# EAGLE library part WIRE-TO-BOARD_6-INLINE (library matts)
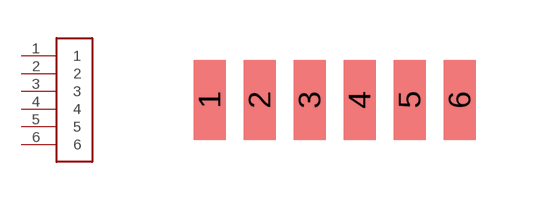
[diagram p2: symbol with the pads of WIRE-TO-BOARD_6-INLINE; footprint WIRE-TO-BOARD_6-INLINE]

Designator prefix -

## WIRE-TO-BOARD_6-INLINE  [WIRE-TO-BOARD_6-INLINE]
1  1
2  2
3  3
4  4
5  5
6  6

## Footprint WIRE-TO-BOARD_6-INLINE (pad centres in mm)
smd 0.8 x 2: 1 0,1; 2 1.25,1; 3 2.5,1; 4 3.75,1; 5 5,1; 6 6.25,1